# Altium footprint library AP7375.PcbLib: 1 footprints
Each footprint in its own frame and in the unit in brackets; x right, y up, seen from the top. Pads: shape width x height; smd on the part's side, far side on the other; paste and mask are expansions set on the pad; w line width, h text height; cw(c..) or ccw(c..) is an arc to the next point about the centre after c.
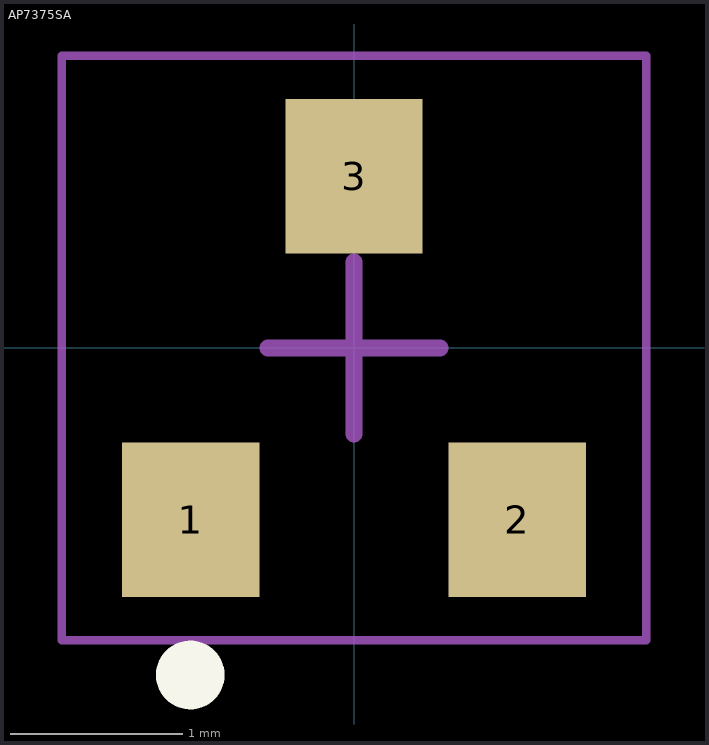
[diagram p0: the footprint, top view; thin cyan lines are the x and y axes]

## AP7375SA [mm] "SOT32"
pads (3):
  rect 0.8x0.9 smd: 1(-0.95,-1) 2(0.95,-1) 3(0,1)
Top Overlay:
  circle w0.2: c-0.953,-1.903 r0.1
Mechanical 15:
  lines w0.05: -1.7,-1.7 1.7,-1.7 1.7,1.7 -1.7,1.7 -1.7,-1.7
  lines w0.1: -0.5,0 0.5,0 ; 0,-0.5 0,0.5
3D body: height 1.1, standoff 0, extent -1.501,-0.7 1.5,0.7